# Altium schematic symbol library S25FL128SAGN.SchLib: 1 symbol
Pins are listed as number, name and electrical type; pins without a type are passive.

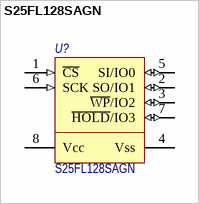
[diagram p0: symbol S25FL128SAGN]

## S25FL128SAGN
designator U?
Programmable NOR flash memory; Потребление, Вт: 0.1; Назначение: Programmable NOR flash memory; ComponentLink1Description: DataSheet; ComponentLink1URL: https://www.infinite-electronic.ru/datasheet/8b-S25FL256SAGBHV203.pdf; Supplier 1: Digi-Key; Supplier Part Number 1: 428-4618-ND; Наименование: S25FL128SAGN
footprint WSON-8_6x8 (SON, 8-Leads, Body 6,00x8,00mm, Pitch 1,27mm, Thermal Pad 4,80x4,65mm, IPC Medium Density)
pins: 1 ~{CS} (in) "nCS", 2 SO/IO1 (io) "Data 1", 3 ~{WP}/IO2 (io) "Data 2", 4 Vss (power) "GND", 5 SI/IO0 (io) "Data 0", 6 SCK (in) "DCLK", 7 ~{HOLD}/IO3 (io) "Data 3", 8 Vcc (power), 9 TP (power)